# Altium footprint library Jason_PCB Library.PcbLib: 24 footprints (part 1 of 2)
Each footprint in its own frame and in the unit in brackets; x right, y up, seen from the top. Pads: shape width x height; smd on the part's side, far side on the other; paste and mask are expansions set on the pad; w line width, h text height; cw(c..) or ccw(c..) is an arc to the next point about the centre after c.
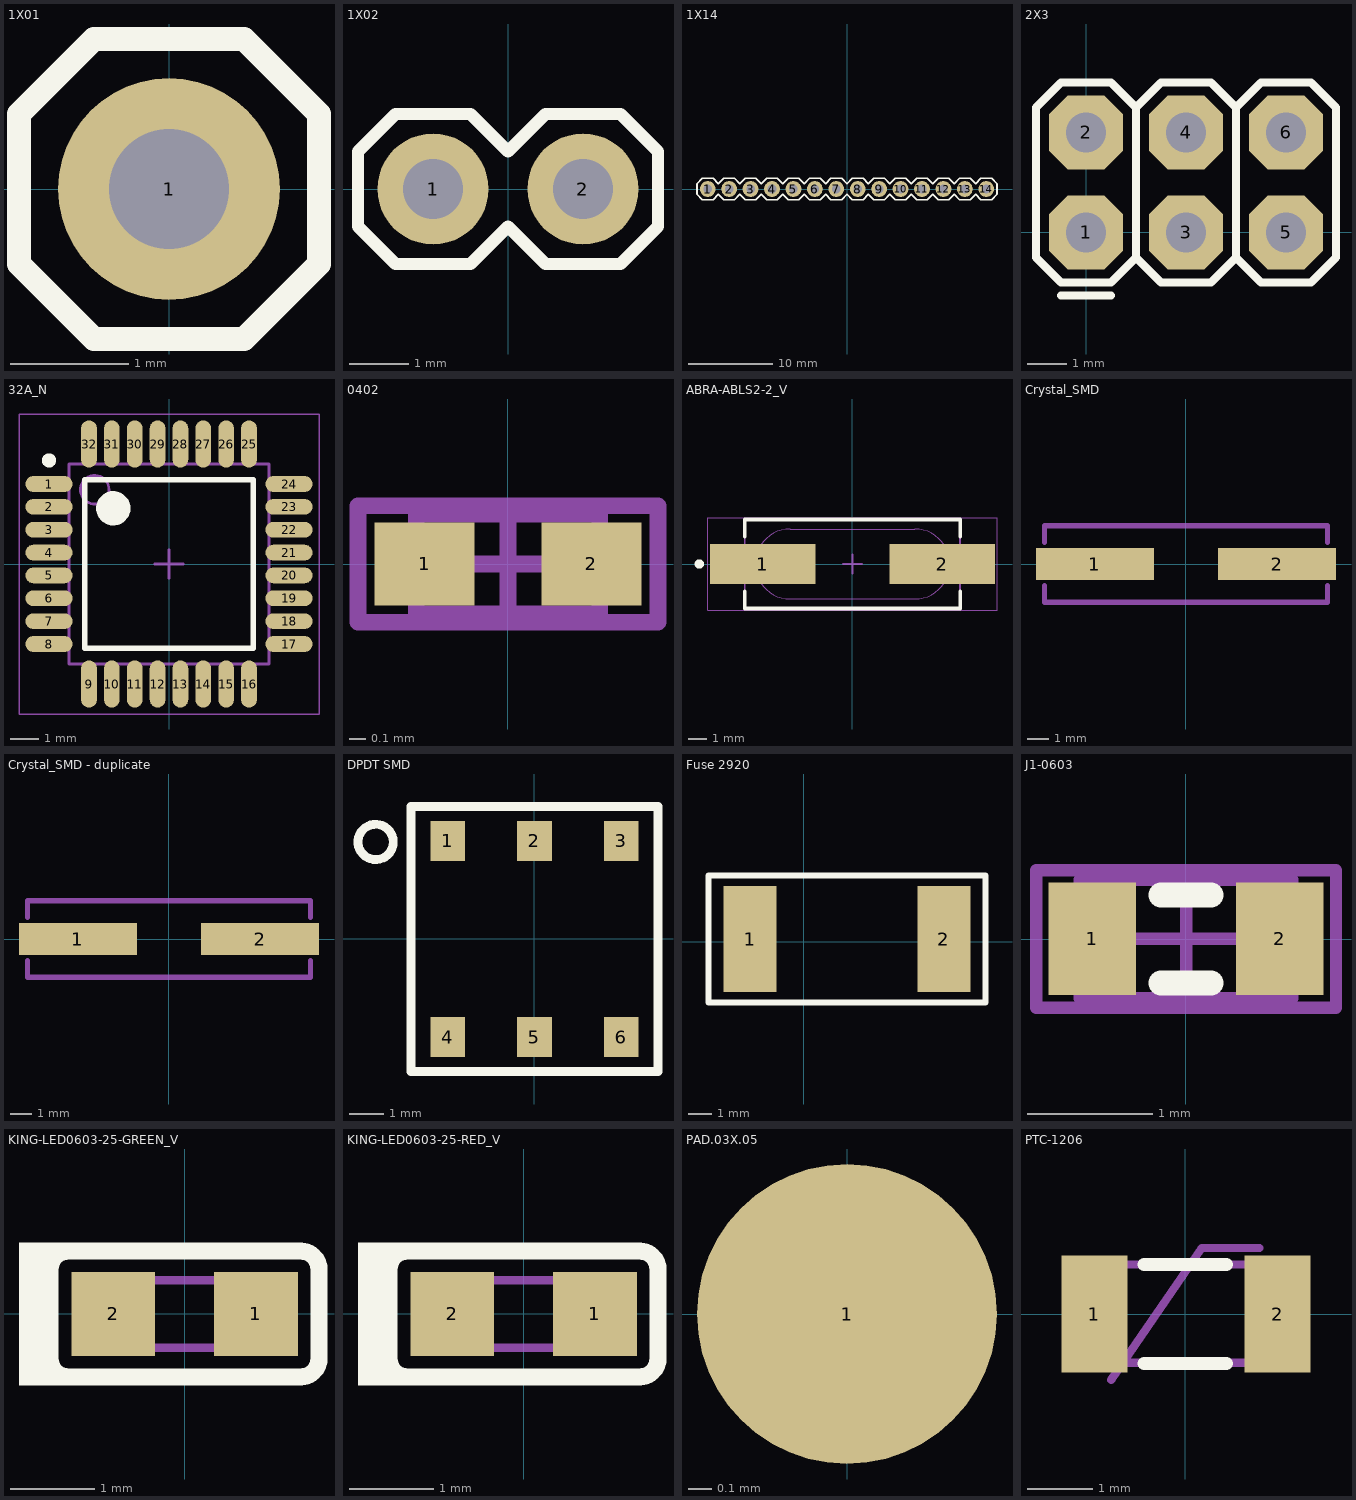
[diagram p0: the footprints below, top view; thin cyan lines are the x and y axes]

## 1X01 [mil] "1X01"
pads (1):
  round 74 hole 40: 1(0,0)
Top Overlay:
  lines w8: -50,-25 -25,-50 25,-50 50,-25 50,25 25,50 -25,50 -50,25 -50,-25
Mechanical 16:
  rectangle: -10,-10 10,10
3D body "Header 1.SLDPRT": height 336.22, standoff -118.11, extent -50,-49.01 50,49.02

## 1X02 [mil] "1X02"
pads (2):
  round 74 hole 40: 1(-50,0) 2(50,0)
Top Overlay:
  lines w8: -100,-25 -100,25 -75,50 -25,50 0,25 25,50 75,50 100,25 100,-25 75,-50 25,-50 0,-25 -25,-50 -75,-50 -100,-25
Mechanical 16:
  rectangle: 40,-10 60,10
  rectangle: -60,-10 -40,10
3D body "Header 2.SLDPRT": height 336.22, standoff -118.11, extent -100,-49.01 100,49.01

## 1X14 [mil] "1X14"
pads (14):
  round 74 hole 40: 1(-650,0) 2(-550,0) 3(-450,0) 4(-350,0) 5(-250,0) 6(-150,0) 7(-50,0) 8(50,0) 9(150,0) 10(250,0) 11(350,0) 12(450,0) 13(550,0) 14(650,0)
Top Overlay:
  lines w8: -700,-25 -675,-50 -625,-50 -600,-25 -575,-50 -525,-50 -500,-25 -475,-50 -425,-50 -400,-25 -375,-50 -325,-50 -300,-25 -275,-50 -225,-50 -200,-25 -175,-50 -125,-50 -100,-25 -75,-50 -25,-50 0,-25 25,-50 75,-50 100,-25 125,-50 175,-50 200,-25 225,-50 275,-50 300,-25 325,-50 375,-50 400,-25 425,-50 475,-50 500,-25 525,-50 575,-50 600,-25 625,-50 675,-50 700,-25 700,25 675,50 625,50 600,25 575,50 525,50 500,25 475,50 425,50 400,25 375,50 325,50 300,25 275,50 225,50 200,25 175,50 125,50 100,25 75,50 25,50 0,25 -25,50 -75,50 -100,25 -125,50 -175,50 -200,25 -225,50 -275,50 -300,25 -325,50 -375,50 -400,25 -425,50 -475,50 -500,25 -525,50 -575,50 -600,25 -625,50 -675,50 -700,25 -700,-25
Mechanical 16:
  rectangle: 40,-10 60,10
  rectangle: 140,-10 160,10
  rectangle: 240,-10 260,10
  rectangle: 340,-10 360,10
  rectangle: 440,-10 460,10
  rectangle: 540,-10 560,10
  rectangle: 640,-10 660,10
  rectangle: -660,-10 -640,10
  rectangle: -560,-10 -540,10
  rectangle: -460,-10 -440,10
  rectangle: -360,-10 -340,10
  rectangle: -260,-10 -240,10
  rectangle: -160,-10 -140,10
  rectangle: -60,-10 -40,10
3D body "Header 14.SLDPRT": height 336.22, standoff -118.11, extent -700,-49.01 700,49.02

## 2X3 [mil] "2X3"
pads (6):
  oct 74x74 hole 40: 1(0,0) 2(0,100) 3(100,0) 4(100,100) 5(200,0) 6(200,100)
Top Overlay:
  lines w8: -25,-63.19 25,-63.19 ; 50,-25 50,125 ; 50,-25 75,-50 125,-50 150,-25 ; 50,-25 25,-50 -25,-50 -50,-25 -50,125 -25,150 25,150 50,125 ; 50,125 75,150 125,150 150,125 ; 150,-25 150,125 ; 150,-25 175,-50 225,-50 250,-25 250,125 225,150 175,150 150,125
Mechanical 16:
  rectangle: 190,-10 210,10
  rectangle: 190,90 210,110
  rectangle: 90,-10 110,10
  rectangle: 90,90 110,110
  rectangle: -10,90 10,110
  rectangle: -10,-10 10,10
3D body "Header 2x3.SLDPRT": height 335.13, standoff -117.63, extent -50,-49.2 250,149.22

## 32A_N [mm] "Thin QFP, 32-Leads, Body 7x7mm, Pitch 0.8mm, IPC Medium Density"
height 1.2
pads (32):
  oval 1.65x0.55 smd: 1(-4.2,2.8) 2(-4.2,2) 3(-4.2,1.2) 4(-4.2,0.4) 5(-4.2,-0.4) 6(-4.2,-1.2) 7(-4.2,-2) 8(-4.2,-2.8) 17(4.2,-2.8) 18(4.2,-2) 19(4.2,-1.2) 20(4.2,-0.4) 21(4.2,0.4) 22(4.2,1.2) 23(4.2,2) 24(4.2,2.8)
  oval 0.55x1.65 smd: 9(-2.8,-4.2) 10(-2,-4.2) 11(-1.2,-4.2) 12(-0.4,-4.2) 13(0.4,-4.2) 14(1.2,-4.2) 15(2,-4.2) 16(2.8,-4.2) 25(2.8,4.2) 26(2,4.2) 27(1.2,4.2) 28(0.4,4.2) 29(-0.4,4.2) 30(-1.2,4.2) 31(-2,4.2) 32(-2.8,4.2)
Top Overlay:
  circle w0.25: c-4.2,3.625 r0.125
  circle w0.6: c-1.95,1.95 r0.3
  lines w0.2: -2.95,-2.95 -2.95,2.95 2.95,2.95 2.95,-2.95 -2.95,-2.95
Mechanical 13:
  circle w0.1: c-2.6,2.6 r0.5
  lines w0.1: -3.5,-3.5 -3.5,3.5 3.5,3.5 3.5,-3.5 -3.5,-3.5
Mechanical 15:
  lines w0.05: -5.25,-5.25 -5.25,5.25 5.25,5.25 5.25,-5.25 -5.25,-5.25
  lines w0.1: -0.5,0 0.5,0 ; 0,-0.5 0,0.5
3D body "ATMEGA328P-AU.SLDPRT": height 1.24, standoff -0.07, extent -4.361,-4.361 4.361,4.361

## 0402 [mm] "Chip Capacitor, Body 1.0x0.5mm, IPC High Density"
height 1.3
pads (2):
  rect 0.6x0.5 smd: 1(-0.5,0) 2(0.5,0)
Mechanical 13:
  lines w0.1: -0.55,-0.3 0.55,-0.3 0.55,0.3 -0.55,0.3 -0.55,-0.3
Mechanical 15:
  lines w0.1: -0.3,0 0.3,0 ; 0,-0.3 0,0.3 ; -0.9,-0.35 0.9,-0.35 0.9,0.35 -0.9,0.35 -0.9,-0.35
3D body: height 0.4, standoff 0, extent -0.525,-0.275 -0.3,0.275
3D body: height 0.4, standoff 0, extent -0.3,-0.275 0.3,0.275
3D body: height 0.4, standoff 0, extent 0.3,-0.275 0.525,0.275

## ABRA-ABLS2-2_V [mm] "SMD, 2-Leads, Body 11.4x4.7mm, Height 3.3mm"
height 3.3
pads (2):
  rect 5.6x2.1 smd: 1(-4.75,0) 2(4.75,0)
Top Overlay:
  circle w0.25: c-8.1,0 r0.125
  lines w0.2: -5.7,-1.45 -5.7,-2.35 5.7,-2.35 5.7,-1.45 ; -5.7,1.45 -5.7,2.35 5.7,2.35 5.7,1.45
Mechanical 13:
  lines w0.05: -3.3,-1.85 cw(c-3.3,0) -3.3,1.85 3.3,1.85 cw(c3.3,0) 3.3,-1.85 -3.3,-1.85
  lines w0.1: -5.7,-2.35 -5.7,2.35 5.7,2.35 5.7,-2.35 -5.7,-2.35
Mechanical 15:
  lines w0.05: -7.65,-2.45 7.65,-2.45 7.65,2.45 -7.65,2.45 -7.65,-2.45
  lines w0.1: -0.5,0 0.5,0 ; 0,-0.5 0,0.5
3D body: height 3.3, standoff 0.5, extent -5.151,-1.851 5.151,1.851
3D body: height 0.5, standoff 0, extent -5.699,-2.349 5.699,2.349

## Crystal_SMD [mm]
pads (2):
  rect 5.5x1.5 smd: 1(-4.25,0) 2(4.25,0)
Mechanical 1:
  lines w0.254: -6.604,-1.016 -6.604,-1.778 6.604,-1.778 6.604,-1.016 ; -6.604,1.016 -6.604,1.778 6.604,1.778 6.604,1.016
3D body "User Library-SMU-4.STEP": height 4.01, standoff 0.01, extent -6.25,-2.4 6.25,2.4

## Crystal_SMD - duplicate [mm]
pads (2):
  rect 5.5x1.5 smd: 1(-4.25,0) 2(4.25,0)
Mechanical 1:
  lines w0.254: -6.604,-1.016 -6.604,-1.778 6.604,-1.778 6.604,-1.016 ; -6.604,1.016 -6.604,1.778 6.604,1.778 6.604,1.016
3D body "User Library-SMU-4.STEP": height 4.01, standoff 0.01, extent -6.25,-2.4 6.25,2.4

## DPDT SMD [mm]
pads (6):
  rect 1x1.15 smd: 1(-2.5,2.825) 2(0,2.825) 3(2.5,2.825) 4(-2.5,-2.825) 5(0,-2.825) 6(2.5,-2.825)
Top Overlay:
  circle w0.254: c-4.572,2.794 r0.508
  lines w0.254: -3.556,-3.81 3.556,-3.81 3.556,3.81 -3.556,3.81 -3.556,-3.81
3D body "DPDT Switch.stp": height 2.5, standoff -0.49, extent -3.6,-2.997 3.6,2.997

## Fuse 2920 [mm] "SMT Fuse, 2-Leads, Body 9.5x6.71mm"
pads (2):
  rect 2.3x4.6 smd: 1(-2.323,0.127) 2(6.077,0.127)
Top Overlay:
  lines w0.254: -4.123,-2.623 -4.123,2.877 7.627,2.877 7.877,2.877 7.877,-2.623 -4.123,-2.623
3D body: height 2.79, standoff 2.03, extent -0.776,-2.899 6.276,3.246
3D body: height 2.03, standoff 0, extent 5.685,-1.56 6.329,2.221
3D body: height 2.16, standoff 1.68, extent -0.81,-3.005 6.332,3.338
3D body: height 3.17, standoff 2.79, extent -2.766,-3.012 6.276,3.339
3D body: height 3.05, standoff 0, extent -2.784,-1.645 -2.14,2.136

## J1-0603 [mm] "Chip Resistor, Body 1.6x0.8mm, IPC High Density"
height 0.9
pads (2):
  rect 0.7x0.9 smd: 1(-0.75,0) 2(0.75,0)
Top Overlay:
  lines w0.2: -0.2,-0.35 0.2,-0.35 ; -0.2,0.35 0.2,0.35
Mechanical 13:
  lines w0.1: -0.85,-0.475 0.85,-0.475 0.85,0.475 -0.85,0.475 -0.85,-0.475
Mechanical 15:
  lines w0.1: -0.475,0 0.475,0 ; 0,-0.475 0,0.475 ; -1.2,-0.55 1.2,-0.55 1.2,0.55 -1.2,0.55 -1.2,-0.55
3D body: height 1, standoff 0, extent 0.525,-0.475 0.875,0.475
3D body: height 1, standoff 0, extent -0.875,-0.475 -0.525,0.475
3D body: height 1, standoff 0, extent -0.525,-0.475 0.525,0.475

## KING-LED0603-25-GREEN_V [mm] "LED, SMT, Body 1.6 x 0.8 mm, 0.25mm Thickness"
height 0.25
pads (2):
  rect 1x1 smd paste+0 mask+0: 1(0.85,0) 2(-0.85,0)
Top Overlay:
  rectangle: -1.782,0.665 -1.132,0.851
  rectangle: -1.973,-0.851 -1.516,0.851
  rectangle: -1.782,-0.851 -1.198,-0.686
  lines w0.203: -1.602,-0.533 ccw(c-1.386,-0.533) -1.386,-0.749 1.386,-0.749 ccw(c1.386,-0.533) 1.602,-0.533 1.602,0.533 ccw(c1.386,0.533) 1.386,0.749 -1.386,0.749 ccw(c-1.386,0.533) -1.602,0.533 -1.602,-0.533
Mechanical 7:
  lines w0.1: -0.8,-0.4 -0.8,0.4 0.8,0.4 0.8,-0.4 -0.8,-0.4
3D body: height 0.1, standoff 0, extent -0.8,-0.4 0.8,0.4
3D body: height 0.2, standoff 0.15, extent -0.254,-0.254 0.254,0.254
3D body: height 0.25, standoff 0.1, extent -0.6,-0.4 0.6,0.4

## KING-LED0603-25-RED_V [mm] "LED, SMT, Body 1.6 x 0.8 mm, 0.25mm Thickness"
height 0.25
pads (2):
  rect 1x1 smd paste+0 mask+0: 1(0.85,0) 2(-0.85,0)
Top Overlay:
  rectangle: -1.782,0.665 -1.132,0.851
  rectangle: -1.973,-0.851 -1.516,0.851
  rectangle: -1.782,-0.851 -1.198,-0.686
  lines w0.203: -1.602,-0.533 ccw(c-1.386,-0.533) -1.386,-0.749 1.386,-0.749 ccw(c1.386,-0.533) 1.602,-0.533 1.602,0.533 ccw(c1.386,0.533) 1.386,0.749 -1.386,0.749 ccw(c-1.386,0.533) -1.602,0.533 -1.602,-0.533
Mechanical 7:
  lines w0.1: -0.8,-0.4 -0.8,0.4 0.8,0.4 0.8,-0.4 -0.8,-0.4
3D body: height 0.1, standoff 0, extent -0.8,-0.4 0.8,0.4
3D body: height 0.2, standoff 0.15, extent -0.254,-0.254 0.254,0.254
3D body: height 0.25, standoff 0.1, extent -0.6,-0.4 0.6,0.4

## PAD.03X.05 [mm] "PAD.03X.05"
pads (1):
  rrect100% 1.27x1.27 smd: 1(0,0)

## PTC-1206 [mil] "PTC-1206"
pads (2):
  rect 40x71 smd: 1(-55.12,0) 2(56,0)
Top Overlay:
  lines w8: -25,-30 25,-30 ; -25,30 25,30
Mechanical 16:
  lines w5: -45,-40 10,40 45,40 ; -59.06,-29.53 60,-29.53 60,30 -59.06,30 -59.06,-29.53
3D body "PTC 1206.SLDPRT": height 22.59, standoff 0.46, extent -63.03,-31.52 63.03,33.52